# EAGLE library part MAX4066 (library IRK)
Quad Bilateral Analog Switch
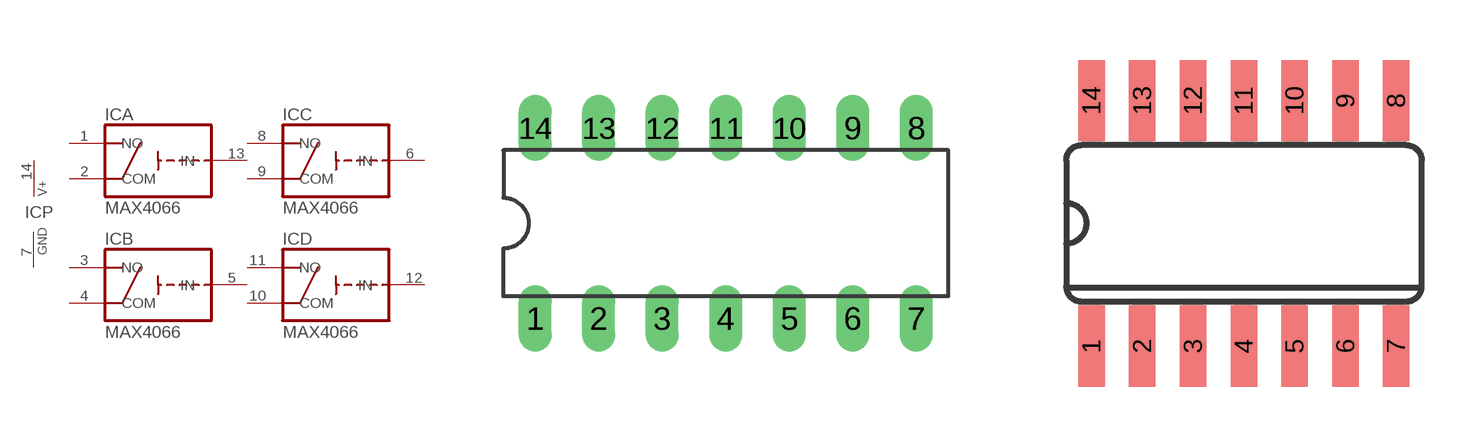
[diagram p0: symbol with the pads of DIL14; footprints DIL14, SO14]

Designator prefix IC; gates A=MAX4066 B=MAX4066 C=MAX4066 D=MAX4066 P=PWRN

## MAX4066EPD  [DIL14]
1  A:NO  hiz
2  A:COM  hiz
3  B:NO  hiz
4  B:COM  hiz
5  B:IN  in
6  C:IN  in
7  P:GND  pwr
8  C:NO  hiz
9  C:COM  hiz
10  D:COM  hiz
11  D:NO  hiz
12  D:IN  in
13  A:IN  in
14  P:V+  pwr

## MAX4066ESD  [SO14]
Pads as for DIL14

## Footprint DIL14 (pad centres in mm)
Dual In Line Package
drill 0.813 long: 1 -7.62,-3.81; 2 -5.08,-3.81; 3 -2.54,-3.81; 4 0,-3.81; 5 2.54,-3.81; 6 5.08,-3.81; 7 7.62,-3.81; 8 7.62,3.81; 9 5.08,3.81; 10 2.54,3.81; 11 0,3.81; 12 -2.54,3.81; 13 -5.08,3.81; 14 -7.62,3.81

## Footprint SO14 (pad centres in mm)
Small Outline package 150 mil
smd 0.66 x 2.032: 1 -3.81,-3.073; 2 -2.54,-3.073; 3 -1.27,-3.073; 4 0,-3.073; 5 1.27,-3.073; 6 2.54,-3.073; 7 3.81,-3.073; 8 3.81,3.073; 9 2.54,3.073; 10 1.27,3.073; 11 0,3.073; 12 -1.27,3.073; 13 -2.54,3.073; 14 -3.81,3.073